# Altium integrated library SM06B-GHS-TB.IntLib: 1 symbol
Pins are listed as number, name and electrical type; pins without a type are passive.

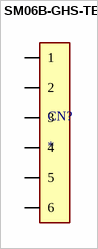
[diagram p0: symbol SM06B-GHS-TB]

## SM06B-GHS-TB
designator CN?
Connector Header Surface Mount, Right Angle 6 position 0.049 (1.25mm); MF: JST Sales; MP: SM06B-GHS-TB; SnapEDA_Link: https://www.snapeda.com/parts/SM06B-GHS-TB/JST+Sales+America+Inc./view-part/?ref=snap; Package: None; Value: *; Check_prices: https://www.snapeda.com/parts/SM06B-GHS-TB/JST+Sales+America+Inc./view-part/?ref=eda
footprint JST-GH-6
pins: P$1 1 (io), P$2 2 (io), P$3 3 (io), P$4 4 (io), P$5 5 (io), P$6 6 (io)